# EAGLE library part AD8400ARZ100-ND (library calbi)
The AD8400ARZ100-ND is a 1-channel digital potentiometer. This device provides a single variable resistor in SOIC-8 package up to 100K resistance
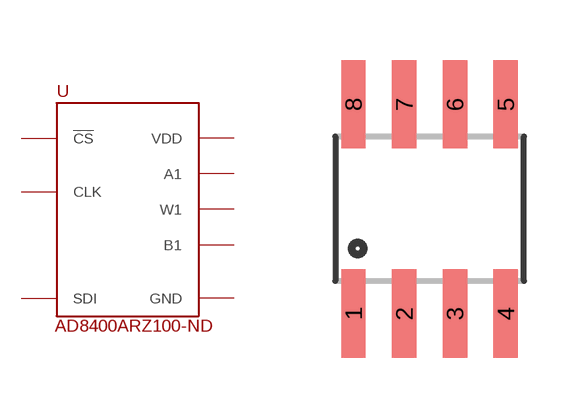
[diagram p1: symbol with the pads of SO08; footprint SO08]

Designator prefix -

## AD8400ARZ100-NDSOIC-8  [SO08]
1  B1
2  GND
3  !CS
4  SDI
5  CLK
6  VDD
7  W1
8  A1

## Footprint SO08 (pad centres in mm)
Small Outline Package Fits JEDEC packages (narrow SOIC-8)
smd 0.61 x 2.21: 1 -1.905,-2.616; 2 -0.635,-2.616; 3 0.635,-2.616; 4 1.905,-2.616; 5 1.905,2.616; 6 0.635,2.616; 7 -0.635,2.616; 8 -1.905,2.616